# Altium schematic symbol library UCC2897APW.Schlib: 1 symbol
Pins are listed as number, name and electrical type; pins without a type are passive.

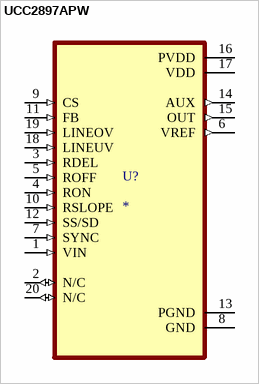
[diagram p0: symbol UCC2897APW]

## UCC2897APW
designator U?
pins: 1 VIN (in), 2 N/C (io), 3 RDEL (in), 4 RON (in), 5 ROFF (in), 6 VREF (out), 7 SYNC (in), 8 GND (power), 9 CS (in), 10 RSLOPE (in), 11 FB (in), 12 SS/SD (in), 13 PGND (power), 14 AUX (out), 15 OUT (out), 16 PVDD (power), 17 VDD (power), 18 LINEUV (in), 19 LINEOV (in), 20 N/C (io)